# Altium schematic symbol library Capacitor_0603_10_percent.SchLib: 33 symbols
Pins are listed as number, name and electrical type; pins without a type are passive.

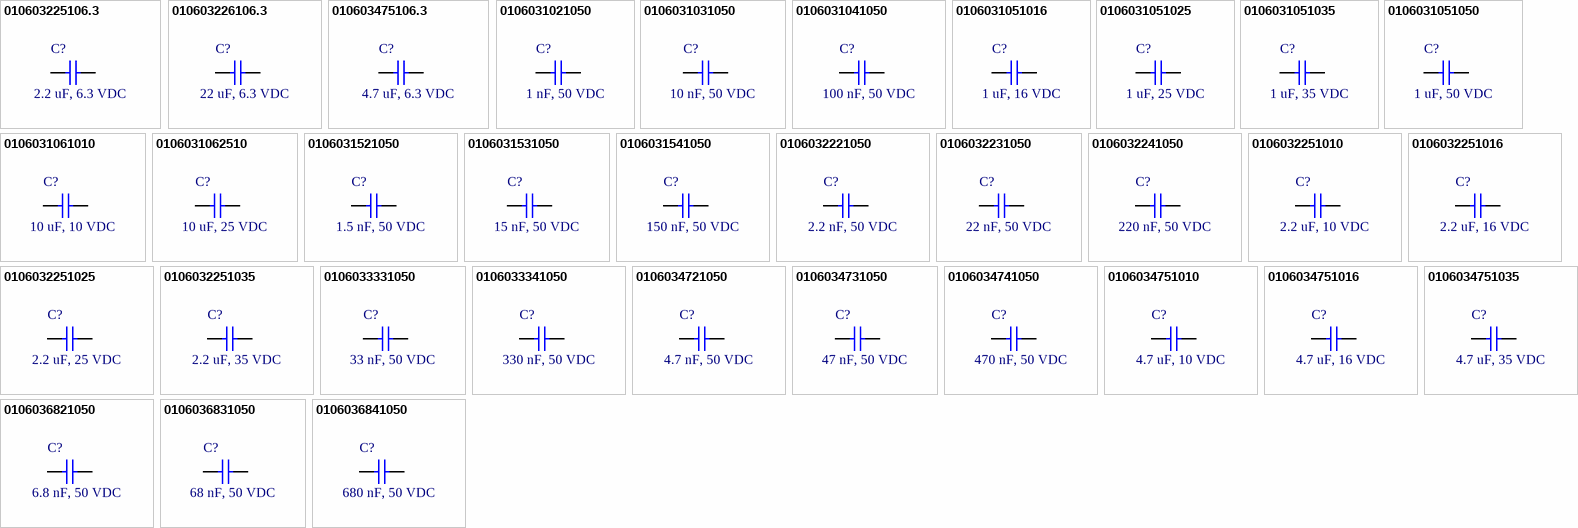
[diagram p0: symbols 010603225106.3 to 0106036841050]

## 010603225106.3
designator C?, comment 2.2 uF, 6.3 VDC
CAP, size 0603, 2.2 uF, 6.3 VDC, 10%; Manufacturer: Samsung Electro-Mechanics; Manufacturer Part Number: CL10B225KQ8NNNC; Capacitance: 2.2 uF; Tolerance: +/-10%; Voltage Rating DC: 6.3 VDC; Packaging: Tape and Reel; Supplier 1 URL: https://www.mouser.vn/ProductDetail/Samsung-Electro-Mechanics/CL10B225KQ8NNNC?qs=349EhDEZ59rhKTQnNCSlcg%3D%3D&utm_source=mouser-refine-download&utm_medium=file&utm_campaign=CL10B225KQ8NNNC&utm_content=Samsung-Electro-Mechanics; Supplier 2 URL: https://www.digikey.com/en/products/detail/samsung-electro-mechanics/cl10b225kq8nnnc/3887676; Supplier 3 URL: N/A; Value: 2.2 uF, 6.3 VDC; Supplier 1: Mouser; Supplier 1 Part Number: 187-CL10B225KQ8NNNC; Supplier 2: Digi-Key; Supplier 2 Part Number: 1276-2018-2-ND; Supplier 3: thegioiic; Supplier 3 Part Number: N/A; ComponentLink1Description: Datasheet; ComponentLink1URL: https://www.mouser.vn/datasheet/2/585/MLCC-1837944.pdf; Mount: SMD/SMT; Operating Temperature Max: + 85 C; Operating Temperature Min: - 40 C; Package / Case: 0603; LCSC Part #: N/A
footprint CAP_0603
pins: 1, 2

## 010603226106.3
designator C?, comment 22 uF, 6.3 VDC
CAP, size 0603, 22 uF, 6.3 VDC, 10%; Manufacturer: Samsung Electro-Mechanics; Manufacturer Part Number: CL10A226KQ8NRNE; Capacitance: 22 uF; Tolerance: +/-10%; Voltage Rating DC: 6.3 VDC; Packaging: Tape and Reel; Supplier 1 URL: https://www.mouser.vn/ProductDetail/Samsung-Electro-Mechanics/CL10A226KQ8NRNE?qs=NrXEK%2Fuukt63rpgsAsB8kg%3D%3D&utm_source=mouser-refine-download&utm_medium=file&utm_campaign=CL10A226KQ8NRNE&utm_content=Samsung-Electro-Mechanics; Supplier 2 URL: https://www.digikey.com/en/products/detail/samsung-electro-mechanics/cl10a226kq8nrne/3888525; Supplier 3 URL: N/A; Value: 22 uF, 6.3 VDC; Supplier 1: Mouser; Supplier 1 Part Number: 187-CL10A226KQ8NRNE; Supplier 2: Digi-Key; Supplier 2 Part Number: 1276-2867-2-ND; Supplier 3: thegioiic; Supplier 3 Part Number: N/A; ComponentLink1Description: Datasheet; ComponentLink1URL: https://www.mouser.vn/datasheet/2/585/MLCC-1837944.pdf; Mount: SMD/SMT; Operating Temperature Max: + 85 C; Operating Temperature Min: - 40 C; Package / Case: 0603; LCSC Part #: N/A
footprint CAP_0603
pins: 1, 2

## 010603475106.3
designator C?, comment 4.7 uF, 6.3 VDC
CAP, size 0603, 4.7 uF, 6.3 VDC, 10%; Manufacturer: Samsung Electro-Mechanics; Manufacturer Part Number: CL10B475KQ8NQNC; Capacitance: 4.7 uF; Tolerance: +/-10%; Voltage Rating DC: 6.3 VDC; Packaging: Tape and Reel; Supplier 1 URL: https://www.mouser.vn/ProductDetail/Samsung-Electro-Mechanics/CL10B475KQ8NQNC?qs=6tbHoouHnQxd6rcaSwpT7Q%3D%3D&utm_source=mouser-refine-download&utm_medium=file&utm_campaign=CL10B475KQ8NQNC&utm_content=Samsung-Electro-Mechanics; Supplier 2 URL: https://www.digikey.com/en/products/detail/samsung-electro-mechanics/cl10b475kq8nqnc/3887745; Supplier 3 URL: N/A; Value: 4.7 uF, 6.3 VDC; Supplier 1: Mouser; Supplier 1 Part Number: 187-CL10B475KQ8NQNC; Supplier 2: Digi-Key; Supplier 2 Part Number: 1276-2087-2-ND; Supplier 3: thegioiic; Supplier 3 Part Number: N/A; ComponentLink1Description: Datasheet; ComponentLink1URL: https://www.mouser.vn/datasheet/2/585/MLCC-1837944.pdf; Mount: SMD/SMT; Operating Temperature Max: + 85 C; Operating Temperature Min: - 40 C; Package / Case: 0603; LCSC Part #: N/A
footprint CAP_0603
pins: 1, 2

## 0106031021050
designator C?, comment 1 nF, 50 VDC
CAP, size 0603, 1 nF, 50 VDC, 10%; Manufacturer: TDK; Manufacturer Part Number: CGA3E2X8R1H102K080AE; Capacitance: 1 nF; Tolerance: +/-10%; Voltage Rating DC: 50 VDC; Packaging: Tape and Reel; Supplier 1 URL: https://www.mouser.com/ProductDetail/TDK/CGA3E2X8R1H102K080AE?qs=nQSIdc08i%252Bfmccrsr1TaaQ%3D%3D&utm_source=mouser-refine-download&utm_medium=file&utm_campaign=CGA3E2X8R1H102K080AE&utm_content=TDK; Supplier 2 URL: https://www.digikey.com/en/products/detail/tdk-corporation/cga3e2x8r1h102k080ae/5809329; Supplier 3 URL: N/A; Value: 1 nF, 50 VDC; Supplier 1: Mouser; Supplier 1 Part Number: 810-CGA3E2X8R1H102KA; Supplier 2: Digi-Key; Supplier 2 Part Number: 445-173764-2-ND; Supplier 3: thegioiic; Supplier 3 Part Number: N/A; ComponentLink1Description: Datasheet; ComponentLink1URL: https://product.tdk.com/system/files/dam/doc/product/capacitor/ceramic/mlcc/catalog/mlcc_automotive_soft_en.pdf?ref_disty=mouser; Mount: SMD/SMT; Operating Temperature Max: + 85 C; Operating Temperature Min: - 40 C; Package / Case: 0603; LCSC Part #: N/A
footprint CAP_0603
pins: 1, 2

## 0106031031050
designator C?, comment 10 nF, 50 VDC
CAP, size 0603, 10 nF, 50 VDC, 10%; Manufacturer: TDK; Manufacturer Part Number: CGA3E2X8R1H103K080AA; Capacitance: 10 nF; Tolerance: +/-10%; Voltage Rating DC: 50 VDC; Packaging: Tape and Reel; Supplier 1 URL: https://www.mouser.com/ProductDetail/TDK/CGA3E2X8R1H103K080AA?qs=NRhsANhppD89WrzFr8uamw%3D%3D&utm_source=mouser-refine-download&utm_medium=file&utm_campaign=CGA3E2X8R1H103K080AA&utm_content=TDK; Supplier 2 URL: https://www.digikey.com/en/products/detail/tdk-corporation/cga3e2x8r1h103k080aa/2443370; Supplier 3 URL: https://www.thegioiic.com/tu-gom-0603-10nf-50v; Value: 10 nF, 50 VDC; Supplier 1: Mouser; Supplier 1 Part Number: 810-CGA3E2X8R1H103K; Supplier 2: Digi-Key; Supplier 2 Part Number: 445-5892-2-ND; Supplier 3: thegioiic; Supplier 3 Part Number: N/A; ComponentLink1Description: Datasheet; ComponentLink1URL: https://product.tdk.com/system/files/dam/doc/product/capacitor/ceramic/mlcc/catalog/mlcc_automotive_hightemp_en.pdf?ref_disty=mouser; Mount: SMD/SMT; Operating Temperature Max: + 85 C; Operating Temperature Min: - 40 C; Package / Case: 0603; LCSC Part #: C100042
footprint CAP_0603
pins: 1, 2

## 0106031041050
designator C?, comment 100 nF, 50 VDC
CAP, size 0603, 100 nF, 50 VDC, 10%; Manufacturer: TDK; Manufacturer Part Number: CGA3E3X8R1H104K080AE; Capacitance: 100 nF; Tolerance: +/-10%; Voltage Rating DC: 50 VDC; Packaging: Tape and Reel; Supplier 1 URL: https://www.mouser.com/ProductDetail/TDK/CGA3E3X8R1H104K080AE?qs=nQSIdc08i%252Bd8g3IRRgU2bw%3D%3D&utm_source=mouser-refine-download&utm_medium=file&utm_campaign=CGA3E3X8R1H104K080AE&utm_content=TDK; Supplier 2 URL: https://www.digikey.com/en/products/detail/tdk-corporation/cga3e3x8r1h104k080ae/5809262; Supplier 3 URL: https://www.thegioiic.com/tu-gom-0603-100nf-0-1uf-50v; Value: 100 nF, 50 VDC; Supplier 1: Mouser; Supplier 1 Part Number: 810-CGA3E3X8R1H104KA; Supplier 2: Digi-Key; Supplier 2 Part Number: 445-173697-2-ND; Supplier 3: thegioiic; Supplier 3 Part Number: N/A; ComponentLink1Description: Datasheet; ComponentLink1URL: https://product.tdk.com/system/files/dam/doc/product/capacitor/ceramic/mlcc/catalog/mlcc_automotive_soft_en.pdf?ref_disty=mouser; Mount: SMD/SMT; Operating Temperature Max: + 85 C; Operating Temperature Min: - 40 C; Package / Case: 0603; LCSC Part #: C14663
footprint CAP_0603
pins: 1, 2

## 0106031051016
designator C?, comment 1 uF, 16 VDC
CAP, size 0603, 1 uF, 16 VDC, 10%; Manufacturer: Samsung Electro-Mechanics; Manufacturer Part Number: CL10B105KO8NNWC; Capacitance: 1 uF; Tolerance: +/-10%; Voltage Rating DC: 16 VDC; Packaging: Tape and Reel; Supplier 1 URL: https://www.mouser.vn/ProductDetail/Samsung-Electro-Mechanics/CL10B105KO8NNWC?qs=81r%252BiQLm7BT%252BXtc72qn1ug%3D%3D&utm_source=mouser-refine-download&utm_medium=file&utm_campaign=CL10B105KO8NNWC&utm_content=Samsung-Electro-Mechanics; Supplier 2 URL: https://www.digikey.com/en/products/detail/samsung-electro-mechanics/cl10b105ko8nnwc/16572783; Supplier 3 URL: https://www.thegioiic.com/tu-gom-0603-1uf-16v; Value: 1 uF, 16 VDC; Supplier 1: Mouser; Supplier 1 Part Number: 187-CL10B105KO8NNWC; Supplier 2: Digi-Key; Supplier 2 Part Number: 1276-CL10B105KO8NNWCTR-ND; Supplier 3: thegioiic; Supplier 3 Part Number: N/A; ComponentLink1Description: Datasheet; ComponentLink1URL: https://www.mouser.vn/datasheet/2/585/Samsung_MLCC_1837944-1929650.pdf; Mount: SMD/SMT; Operating Temperature Max: + 85 C; Operating Temperature Min: - 40 C; Package / Case: 0603; LCSC Part #: C1592
footprint CAP_0603
pins: 1, 2

## 0106031051025
designator C?, comment 1 uF, 25 VDC
CAP, size 0603, 1 uF, 25 VDC, 10%; Manufacturer: Samsung Electro-Mechanics; Manufacturer Part Number: CL10A105KA8NNNC; Capacitance: 1 uF; Tolerance: +/-10%; Voltage Rating DC: 25 VDC; Packaging: Tape and Reel; Supplier 1 URL: https://www.mouser.vn/ProductDetail/Samsung-Electro-Mechanics/CL10A105KA8NNNC?qs=hqM3L16%252BxldY%252BnK4KzDJVg%3D%3D&utm_source=mouser-refine-download&utm_medium=file&utm_campaign=CL10A105KA8NNNC&utm_content=Samsung-Electro-Mechanics; Supplier 2 URL: https://www.digikey.com/en/products/detail/samsung-electro-mechanics/cl10a105ka8nnnc/3886760; Supplier 3 URL: https://www.thegioiic.com/tu-gom-0603-1uf-25v; Value: 1 uF, 25 VDC; Supplier 1: Mouser; Supplier 1 Part Number: 187-CL10A105KA8NNNC; Supplier 2: Digi-Key; Supplier 2 Part Number: 1276-1102-2-ND; Supplier 3: thegioiic; Supplier 3 Part Number: N/A; ComponentLink1Description: Datasheet; ComponentLink1URL: https://www.mouser.vn/datasheet/2/585/MLCC-1837944.pdf; Mount: SMD/SMT; Operating Temperature Max: + 85 C; Operating Temperature Min: - 40 C; Package / Case: 0603; LCSC Part #: N/A
footprint CAP_0603
pins: 1, 2

## 0106031051035
designator C?, comment 1 uF, 35 VDC
CAP, size 0603, 1 uF, 35 VDC, 10%; Manufacturer: Samsung Electro-Mechanics; Manufacturer Part Number: CL10B105KL9VPJC; Capacitance: 1 uF; Tolerance: +/-10%; Voltage Rating DC: 35 VDC; Packaging: Tape and Reel; Supplier 1 URL: https://www.mouser.vn/ProductDetail/Samsung-Electro-Mechanics/CL10B105KL9VPJC?qs=Jm2GQyTW%2Fbg7HPXOYntRzg%3D%3D&utm_source=mouser-refine-download&utm_medium=file&utm_campaign=CL10B105KL9VPJC&utm_content=Samsung-Electro-Mechanics; Supplier 2 URL: N/A; Supplier 3 URL: N/A; Value: 1 uF, 35 VDC; Supplier 1: Mouser; Supplier 1 Part Number: 187-CL10B105KL9VPJC; Supplier 2: Digi-Key; Supplier 2 Part Number: N/A; Supplier 3: thegioiic; Supplier 3 Part Number: N/A; ComponentLink1Description: Datasheet; ComponentLink1URL: https://www.mouser.vn/datasheet/2/585/Samsung_3_7_2023_CL21Y106KABVPN_Specsheet-3106720.pdf; Mount: SMD/SMT; Operating Temperature Max: + 85 C; Operating Temperature Min: - 40 C; Package / Case: 0603; LCSC Part #: C342956
footprint CAP_0603
pins: 1, 2

## 0106031051050
designator C?, comment 1 uF, 50 VDC
CAP, size 0603, 1 uF, 50 VDC, 10%; Manufacturer: Samsung Electro-Mechanics; Manufacturer Part Number: CL10A105KB8NNNC; Capacitance: 1 uF; Tolerance: +/-10%; Voltage Rating DC: 50 VDC; Packaging: Tape and Reel; Supplier 1 URL: https://www.mouser.com/ProductDetail/TDK/CGA3E3X5R1H105K080AB?qs=NRhsANhppD%2F2%2FwbVN4GABg%3D%3D&utm_source=mouser-refine-download&utm_medium=file&utm_campaign=CGA3E3X5R1H105K080AB&utm_content=TDK; Supplier 2 URL: https://www.digikey.com/en/products/detail/samsung-electro-mechanics/cl10a105kb8nnnc/3887518; Supplier 3 URL: https://www.thegioiic.com/tu-gom-0603-1uf-50v; Value: 1 uF, 50 VDC; Supplier 1: Mouser; Supplier 1 Part Number: 187-CL10A105KB8NNNC; Supplier 2: Digi-Key; Supplier 2 Part Number: 1276-1860-2-ND; Supplier 3: thegioiic; Supplier 3 Part Number: N/A; ComponentLink1Description: Datasheet; ComponentLink1URL: https://product.tdk.com/system/files/dam/doc/product/capacitor/ceramic/mlcc/catalog/mlcc_automotive_general_en.pdf?ref_disty=mouser; Mount: SMD/SMT; Operating Temperature Max: + 85 C; Operating Temperature Min: - 40 C; Package / Case: 0603; LCSC Part #: C15849
footprint CAP_0603
pins: 1, 2

## 0106031061010
designator C?, comment 10 uF, 10 VDC
CAP, size 0603, 10 uF, 10 VDC, 10%; Manufacturer: Samsung Electro-Mechanics; Manufacturer Part Number: CL10A106KP8NNNC; Capacitance: 10 uF; Tolerance: +/-10%; Voltage Rating DC: 10 VDC; Packaging: Tape and Reel; Supplier 1 URL: https://www.mouser.vn/ProductDetail/Samsung-Electro-Mechanics/CL10A106KP8NNNC?qs=X6jEic%2FHinAlyfRHj7fKwg%3D%3D; Supplier 2 URL: https://www.digikey.com/en/products/detail/samsung-electro-mechanics/cl10a106kp8nnnc/3886850; Supplier 3 URL: https://www.thegioiic.com/tu-gom-0603-10uf-25v; Value: 10 uF, 10 VDC; Supplier 1: Mouser; Supplier 1 Part Number: 187-CL10A106KP8NNNC; Supplier 2: Digi-Key; Supplier 2 Part Number: 1276-1192-2-ND; Supplier 3: thegioiic; Supplier 3 Part Number: N/A; ComponentLink1Description: Datasheet; ComponentLink1URL: https://www.mouser.vn/datasheet/2/585/MLCC-1837944.pdf; Mount: SMD/SMT; Operating Temperature Max: + 85 C; Operating Temperature Min: - 40 C; Package / Case: 0603; LCSC Part #: C19702
footprint CAP_0603
pins: 1, 2

## 0106031062510
designator C?, comment 10 uF, 25 VDC
CAP, size 0603, 10 uF, 10 VDC, 10%; Manufacturer: Samsung Electro-Mechanics; Manufacturer Part Number: CL10A106MA8NRNC; Capacitance: 10 uF; Tolerance: +/-10%; Voltage Rating DC: 25 VDC; Packaging: Tape and Reel; Supplier 1 URL: https://www.mouser.vn/ProductDetail/Samsung-Electro-Mechanics/CL10A106MA8NRNC?qs=47mY1nHWefS2vFRvRJVTdQ%3D%3D; Supplier 2 URL: https://www.digikey.com/en/products/detail/samsung-electro-mechanics/CL10A106MA8NRNC/3887527?s=N4IgTCBcDaIMIBkCMAGAgqgbAWTQDgDkAlAuEAXQF8g; Supplier 3 URL: https://www.thegioiic.com/tu-gom-0603-10uf-25v; Value: 10 uF, 25 VDC; Supplier 1: Mouser; Supplier 1 Part Number: 187-CL10A106MA8NRNC; Supplier 2: Digi-Key; Supplier 2 Part Number: 1276-1869-2-ND; Supplier 3: thegioiic; Supplier 3 Part Number: N/A; ComponentLink1Description: Datasheet; ComponentLink1URL: https://www.mouser.vn/datasheet/2/585/MLCC-1837944.pdf; Mount: SMD/SMT; Operating Temperature Max: + 85 C; Operating Temperature Min: - 40 C; Package / Case: 0603; LCSC Part #: C96446
footprint CAP_0603
pins: 1, 2

## 0106031521050
designator C?, comment 1.5 nF, 50 VDC
CAP, size 0603, 1.5 nF, 50 VDC, 10%; Manufacturer: TDK; Manufacturer Part Number: CGA3E2X7R1H152K080AA; Capacitance: 1.5 nF; Tolerance: +/-10%; Voltage Rating DC: 50 VDC; Packaging: Tape and Reel; Supplier 1 URL: https://www.mouser.com/ProductDetail/TDK/CGA3E2X7R1H152K080AA?qs=NRhsANhppD%2FNdlvuo0XOnQ%3D%3D&utm_source=mouser-refine-download&utm_medium=file&utm_campaign=CGA3E2X7R1H152K080AA&utm_content=TDK; Supplier 2 URL: https://www.digikey.com/en/products/detail/tdk-corporation/cga3e2x7r1h152k080aa/2672813; Supplier 3 URL: N/A; Value: 1.5 nF, 50 VDC; Supplier 1: Mouser; Supplier 1 Part Number: 810-CGA3E2X7R1H152K; Supplier 2: Digi-Key; Supplier 2 Part Number: 445-6920-2-ND; Supplier 3: thegioiic; Supplier 3 Part Number: N/A; ComponentLink1Description: Datasheet; ComponentLink1URL: https://product.tdk.com/system/files/dam/doc/product/capacitor/ceramic/mlcc/catalog/mlcc_automotive_general_en.pdf?ref_disty=mouser; Mount: SMD/SMT; Operating Temperature Max: + 85 C; Operating Temperature Min: - 40 C; Package / Case: 0603; LCSC Part #: N/A
footprint CAP_0603
pins: 1, 2

## 0106031531050
designator C?, comment 15 nF, 50 VDC
CAP, size 0603, 15 nF, 50 VDC, 10%; Manufacturer: TDK; Manufacturer Part Number: CGA3E2X7R1H153K080AA; Capacitance: 15 nF; Tolerance: +/-10%; Voltage Rating DC: 50 VDC; Packaging: Tape and Reel; Supplier 1 URL: https://www.mouser.com/ProductDetail/TDK/CGA3E2X7R1H153K080AA?qs=NRhsANhppD9%252BHOr2gRAOAw%3D%3D&utm_source=mouser-refine-download&utm_medium=file&utm_campaign=CGA3E2X7R1H153K080AA&utm_content=TDK; Supplier 2 URL: https://www.digikey.com/en/products/detail/tdk-corporation/cga3e2x7r1h153k080aa/2672816; Supplier 3 URL: N/A; Value: 15 nF, 50 VDC; Supplier 1: Mouser; Supplier 1 Part Number: 810-CGA3E2X7R1H153K; Supplier 2: Digi-Key; Supplier 2 Part Number: 445-6923-2-ND; Supplier 3: thegioiic; Supplier 3 Part Number: N/A; ComponentLink1Description: Datasheet; ComponentLink1URL: https://product.tdk.com/system/files/dam/doc/product/capacitor/ceramic/mlcc/catalog/mlcc_automotive_general_en.pdf?ref_disty=mouser; Mount: SMD/SMT; Operating Temperature Max: + 85 C; Operating Temperature Min: - 40 C; Package / Case: 0603; LCSC Part #: N/A
footprint CAP_0603
pins: 1, 2

## 0106031541050
designator C?, comment 150 nF, 50 VDC
CAP, size 0603, 150 nF, 50 VDC, 10%; Manufacturer: TDK; Manufacturer Part Number: CGA3E3X5R1H154K080AB; Capacitance: 150 nF; Tolerance: +/-10%; Voltage Rating DC: 50 VDC; Packaging: Tape and Reel; Supplier 1 URL: https://www.mouser.com/ProductDetail/TDK/CGA3E3X5R1H154K080AB?qs=xLDY6iXSiQbcO3mD7qcuig%3D%3D&utm_source=mouser-refine-download&utm_medium=file&utm_campaign=CGA3E3X5R1H154K080AB&utm_content=TDK; Supplier 2 URL: https://www.digikey.com/en/products/detail/tdk-corporation/cga3e3x5r1h154k080ab/3949736; Supplier 3 URL: N/A; Value: 150 nF, 50 VDC; Supplier 1: Mouser; Supplier 1 Part Number: 810-CGA3E3X5R1H154KB; Supplier 2: Digi-Key; Supplier 2 Part Number: 445-12500-2-ND; Supplier 3: thegioiic; Supplier 3 Part Number: N/A; ComponentLink1Description: Datasheet; ComponentLink1URL: https://product.tdk.com/system/files/dam/doc/product/capacitor/ceramic/mlcc/catalog/mlcc_automotive_general_en.pdf?ref_disty=mouser; Mount: SMD/SMT; Operating Temperature Max: + 85 C; Operating Temperature Min: - 40 C; Package / Case: 0603; LCSC Part #: N/A
footprint CAP_0603
pins: 1, 2

## 0106032221050
designator C?, comment 2.2 nF, 50 VDC
CAP, size 0603, 2.2 nF, 50 VDC, 10%; Manufacturer: TDK; Manufacturer Part Number: CGA3E2X7R1H222K080AE; Capacitance: 2.2 nF; Tolerance: +/-10%; Voltage Rating DC: 50 VDC; Packaging: Tape and Reel; Supplier 1 URL: https://www.mouser.com/ProductDetail/TDK/CGA3E2X7R1H222K080AE?qs=nQSIdc08i%252Bf18aY9rwDnjg%3D%3D&utm_source=mouser-refine-download&utm_medium=file&utm_campaign=CGA3E2X7R1H222K080AE&utm_content=TDK; Supplier 2 URL: https://www.digikey.com/en/products/detail/tdk-corporation/cga3e2x7r1h222k080ae/5809230; Supplier 3 URL: N/A; Value: 2.2 nF, 50 VDC; Supplier 1: Mouser; Supplier 1 Part Number: 810-CGA3E2X7R1H222KA; Supplier 2: Digi-Key; Supplier 2 Part Number: 445-173665-2-ND; Supplier 3: thegioiic; Supplier 3 Part Number: N/A; ComponentLink1Description: Datasheet; ComponentLink1URL: https://product.tdk.com/system/files/dam/doc/product/capacitor/ceramic/mlcc/catalog/mlcc_automotive_soft_en.pdf?ref_disty=mouser; Mount: SMD/SMT; Operating Temperature Max: + 85 C; Operating Temperature Min: - 40 C; Package / Case: 0603; LCSC Part #: N/A
footprint CAP_0603
pins: 1, 2

## 0106032231050
designator C?, comment 22 nF, 50 VDC
CAP, size 0603, 22 nF, 50 VDC, 10%; Manufacturer: TDK; Manufacturer Part Number: CGA3E2X7R1H223K080AE; Capacitance: 22 nF; Tolerance: +/-10%; Voltage Rating DC: 50 VDC; Packaging: Tape and Reel; Supplier 1 URL: https://www.mouser.com/ProductDetail/TDK/CGA3E2X7R1H223K080AE?qs=nQSIdc08i%252Bf9AsEN7N%2FMeQ%3D%3D&utm_source=mouser-refine-download&utm_medium=file&utm_campaign=CGA3E2X7R1H223K080AE&utm_content=TDK; Supplier 2 URL: https://www.digikey.com/en/products/detail/tdk-corporation/cga3e2x7r1h223k080ae/5809261; Supplier 3 URL: https://www.thegioiic.com/tu-gom-0603-22nf-50v; Value: 22 nF, 50 VDC; Supplier 1: Mouser; Supplier 1 Part Number: 810-CGA3E2X7R1H223KA; Supplier 2: Digi-Key; Supplier 2 Part Number: 445-173696-2-ND; Supplier 3: thegioiic; Supplier 3 Part Number: N/A; ComponentLink1Description: Datasheet; ComponentLink1URL: https://product.tdk.com/system/files/dam/doc/product/capacitor/ceramic/mlcc/catalog/mlcc_automotive_soft_en.pdf?ref_disty=mouser; Mount: SMD/SMT; Operating Temperature Max: + 85 C; Operating Temperature Min: - 40 C; Package / Case: 0603; LCSC Part #: C106222
footprint CAP_0603
pins: 1, 2

## 0106032241050
designator C?, comment 220 nF, 50 VDC
CAP, size 0603, 220 nF, 50 VDC, 10%; Manufacturer: TDK; Manufacturer Part Number: CGA3E3X7R1H224K080AE; Capacitance: 220 nF; Tolerance: +/-10%; Voltage Rating DC: 50 VDC; Packaging: Tape and Reel; Supplier 1 URL: https://www.mouser.com/ProductDetail/TDK/CGA3E3X7R1H224K080AE?qs=nQSIdc08i%252Bd73MzLq310Yg%3D%3D&utm_source=mouser-refine-download&utm_medium=file&utm_campaign=CGA3E3X7R1H224K080AE&utm_content=TDK; Supplier 2 URL: https://www.digikey.com/en/products/detail/tdk-corporation/cga3e3x7r1h224k080ae/5809200; Supplier 3 URL: N/A; Value: 220 nF, 50 VDC; Supplier 1: Mouser; Supplier 1 Part Number: 810-CGA3E3X7R1H224KA; Supplier 2: Digi-Key; Supplier 2 Part Number: 445-173635-2-ND; Supplier 3: thegioiic; Supplier 3 Part Number: N/A; ComponentLink1Description: Datasheet; ComponentLink1URL: https://product.tdk.com/system/files/dam/doc/product/capacitor/ceramic/mlcc/catalog/mlcc_automotive_soft_en.pdf?ref_disty=mouser; Mount: SMD/SMT; Operating Temperature Max: + 85 C; Operating Temperature Min: - 40 C; Package / Case: 0603; LCSC Part #: N/A
footprint CAP_0603
pins: 1, 2

## 0106032251010
designator C?, comment 2.2 uF, 10 VDC
CAP, size 0603, 2.2 uF, 10 VDC, 10%; Manufacturer: Samsung Electro-Mechanics; Manufacturer Part Number: CL10A225KP8NNWC; Capacitance: 2.2 uF; Tolerance: +/-10%; Voltage Rating DC: 10 VDC; Packaging: Tape and Reel; Supplier 1 URL: https://www.mouser.vn/ProductDetail/Samsung-Electro-Mechanics/CL10A225KP8NNWC?qs=f6khj2Jg0Fj5oIVDjMV6rg%3D%3D&utm_source=mouser-refine-download&utm_medium=file&utm_campaign=CL10A225KP8NNWC&utm_content=Samsung-Electro-Mechanics; Supplier 2 URL: https://www.digikey.com/en/products/detail/samsung-electro-mechanics/cl10a225kp8nnwc/16572766; Supplier 3 URL: https://www.thegioiic.com/tu-gom-0603-2-2uf-10v; Value: 2.2 uF, 10 VDC; Supplier 1: Mouser; Supplier 1 Part Number: 187-CL10A225KP8NNWC; Supplier 2: Digi-Key; Supplier 2 Part Number: 1276-CL10A225KP8NNWCTR-ND; Supplier 3: thegioiic; Supplier 3 Part Number: N/A; ComponentLink1Description: Datasheet; ComponentLink1URL: https://www.mouser.vn/datasheet/2/585/Samsung_MLCC_1837944-1929650.pdf; Mount: SMD/SMT; Operating Temperature Max: + 85 C; Operating Temperature Min: - 40 C; Package / Case: 0603; LCSC Part #: N/A
footprint CAP_0603
pins: 1, 2

## 0106032251016
designator C?, comment 2.2 uF, 16 VDC
CAP, size 0603, 2.2 uF, 16 VDC, 10%; Manufacturer: Samsung Electro-Mechanics; Manufacturer Part Number: CL10A225KO8NNWC; Capacitance: 2.2 uF; Tolerance: +/-10%; Voltage Rating DC: 16 VDC; Packaging: Tape and Reel; Supplier 1 URL: https://www.mouser.vn/ProductDetail/Samsung-Electro-Mechanics/CL10A225KO8NNWC?qs=f6khj2Jg0FjUcDguGMWyQw%3D%3D&utm_source=mouser-refine-download&utm_medium=file&utm_campaign=CL10A225KO8NNWC&utm_content=Samsung-Electro-Mechanics; Supplier 2 URL: https://www.digikey.com/en/products/detail/samsung-electro-mechanics/cl10a225ko8nnwc/10478979; Supplier 3 URL: N/A; Value: 2.2 uF, 16 VDC; Supplier 1: Mouser; Supplier 1 Part Number: 187-CL10A225KO8NNWC; Supplier 2: Digi-Key; Supplier 2 Part Number: 1276-CL10A225KO8NNWCTR-ND; Supplier 3: thegioiic; Supplier 3 Part Number: N/A; ComponentLink1Description: Datasheet; ComponentLink1URL: https://www.mouser.vn/datasheet/2/585/MLCC-1837944.pdf; Mount: SMD/SMT; Operating Temperature Max: + 85 C; Operating Temperature Min: - 40 C; Package / Case: 0603; LCSC Part #: N/A
footprint CAP_0603
pins: 1, 2

## 0106032251025
designator C?, comment 2.2 uF, 25 VDC
CAP, size 0603, 2.2 uF, 25 VDC, 10%; Manufacturer: Samsung Electro-Mechanics; Manufacturer Part Number: CL10A225KA5LNNC; Capacitance: 2.2 uF; Tolerance: +/-10%; Voltage Rating DC: 25 VDC; Packaging: Tape and Reel; Supplier 1 URL: https://www.mouser.vn/ProductDetail/Samsung-Electro-Mechanics/CL10A225KA5LNNC?qs=xo2MLhA0R3XJQvhdoYgMfw%3D%3D&utm_source=mouser-refine-download&utm_medium=file&utm_campaign=CL10A225KA5LNNC&utm_content=Samsung-Electro-Mechanics; Supplier 2 URL: https://www.digikey.com/en/products/detail/samsung-electro-mechanics/cl10a225ka5lnnc/3887536; Supplier 3 URL: https://www.thegioiic.com/tu-gom-0603-2-2uf-25v; Value: 2.2 uF, 25 VDC; Supplier 1: Mouser; Supplier 1 Part Number: 187-CL10A225KA5LNNC; Supplier 2: Digi-Key; Supplier 2 Part Number: 1276-1878-2-ND; Supplier 3: thegioiic; Supplier 3 Part Number: N/A; ComponentLink1Description: Datasheet; ComponentLink1URL: https://www.mouser.vn/datasheet/2/585/MLCC-1837944.pdf; Mount: SMD/SMT; Operating Temperature Max: + 85 C; Operating Temperature Min: - 40 C; Package / Case: 0603; LCSC Part #: N/A
footprint CAP_0603
pins: 1, 2

## 0106032251035
designator C?, comment 2.2 uF, 35 VDC
CAP, size 0603, 2.2 uF, 35 VDC, 10%; Manufacturer: Samsung Electro-Mechanics; Manufacturer Part Number: CL10A225KL8NNNC; Capacitance: 2.2 uF; Tolerance: +/-10%; Voltage Rating DC: 35 VDC; Packaging: Tape and Reel; Supplier 1 URL: https://www.mouser.vn/ProductDetail/Samsung-Electro-Mechanics/CL10A225KL8NNNC?qs=xZ%2FP%252Ba9zWqba%2FklSReM66A%3D%3D&utm_source=mouser-refine-download&utm_medium=file&utm_campaign=CL10A225KL8NNNC&utm_content=Samsung-Electro-Mechanics; Supplier 2 URL: https://www.digikey.com/en/products/detail/samsung-electro-mechanics/cl10a225kl8nnnc/5961210; Supplier 3 URL: N/A; Value: 2.2 uF, 35 VDC; Supplier 1: Mouser; Supplier 1 Part Number: 187-CL10A225KL8NNNC; Supplier 2: Digi-Key; Supplier 2 Part Number: 1276-6726-2-ND; Supplier 3: thegioiic; Supplier 3 Part Number: N/A; ComponentLink1Description: Datasheet; ComponentLink1URL: https://www.mouser.vn/datasheet/2/585/MLCC-1837944.pdf; Mount: SMD/SMT; Operating Temperature Max: + 85 C; Operating Temperature Min: - 40 C; Package / Case: 0603; LCSC Part #: N/A
footprint CAP_0603
pins: 1, 2

## 0106033331050
designator C?, comment 33 nF, 50 VDC
CAP, size 0603, 33 nF, 50 VDC, 10%; Manufacturer: TDK; Manufacturer Part Number: CGA3E2X7R1H333K080AA; Capacitance: 33 nF; Tolerance: +/-10%; Voltage Rating DC: 50 VDC; Packaging: Tape and Reel; Supplier 1 URL: https://www.mouser.com/ProductDetail/TDK/CGA3E2X7R1H333K080AA?qs=NRhsANhppD8XLu6u%252B%2FdPcg%3D%3D&utm_source=mouser-refine-download&utm_medium=file&utm_campaign=CGA3E2X7R1H333K080AA&utm_content=TDK; Supplier 2 URL: https://www.digikey.com/en/products/detail/tdk-corporation/cga3e2x7r1h333k080aa/2672817; Supplier 3 URL: N/A; Value: 33 nF, 50 VDC; Supplier 1: Mouser; Supplier 1 Part Number: 810-CGA3E2X7R1H333K; Supplier 2: Digi-Key; Supplier 2 Part Number: 445-6924-2-ND; Supplier 3: thegioiic; Supplier 3 Part Number: N/A; ComponentLink1Description: Datasheet; ComponentLink1URL: https://product.tdk.com/system/files/dam/doc/product/capacitor/ceramic/mlcc/catalog/mlcc_automotive_general_en.pdf?ref_disty=mouser; Mount: SMD/SMT; Operating Temperature Max: + 85 C; Operating Temperature Min: - 40 C; Package / Case: 0603; LCSC Part #: N/A
footprint CAP_0603
pins: 1, 2

## 0106033341050
designator C?, comment 330 nF, 50 VDC
CAP, size 0603, 330 nF, 50 VDC, 10%; Manufacturer: TDK; Manufacturer Part Number: CGA3E3X7R1H334K080AB; Capacitance: 330 nF; Tolerance: +/-10%; Voltage Rating DC: 50 VDC; Packaging: Tape and Reel; Supplier 1 URL: https://www.mouser.com/ProductDetail/TDK/CGA3E3X7R1H334K080AB?qs=xLDY6iXSiQYX1%2FLGJVHTlg%3D%3D&utm_source=mouser-refine-download&utm_medium=file&utm_campaign=CGA3E3X7R1H334K080AB&utm_content=TDK; Supplier 2 URL: https://www.digikey.com/en/products/detail/tdk-corporation/cga3e3x7r1h334k080ab/4931465; Supplier 3 URL: N/A; Value: 330 nF, 50 VDC; Supplier 1: Mouser; Supplier 1 Part Number: 810-CGA3E3X7R1H334KB; Supplier 2: Digi-Key; Supplier 2 Part Number: 445-174426-2-ND; Supplier 3: thegioiic; Supplier 3 Part Number: N/A; ComponentLink1Description: Datasheet; ComponentLink1URL: https://product.tdk.com/system/files/dam/doc/product/capacitor/ceramic/mlcc/catalog/mlcc_automotive_general_en.pdf?ref_disty=mouser; Mount: SMD/SMT; Operating Temperature Max: + 85 C; Operating Temperature Min: - 40 C; Package / Case: 0603; LCSC Part #: N/A
footprint CAP_0603
pins: 1, 2

## 0106034721050
designator C?, comment 4.7 nF, 50 VDC
CAP, size 0603, 4.7 nF, 50 VDC, 10%; Manufacturer: TDK; Manufacturer Part Number: CGA3E2X7R1H472K080AE; Capacitance: 4.7 nF; Tolerance: +/-10%; Voltage Rating DC: 50 VDC; Packaging: Tape and Reel; Supplier 1 URL: https://www.mouser.com/ProductDetail/TDK/CGA3E2X7R1H472K080AE?qs=nQSIdc08i%252BfCN3g%2Fbr3IGA%3D%3D&utm_source=mouser-refine-download&utm_medium=file&utm_campaign=CGA3E2X7R1H472K080AE&utm_content=TDK; Supplier 2 URL: https://www.digikey.com/en/products/detail/tdk-corporation/cga3e2x7r1h472k080ae/5809256; Supplier 3 URL: https://www.thegioiic.com/tu-gom-0603-4-7nf-50v; Value: 4.7 nF, 50 VDC; Supplier 1: Mouser; Supplier 1 Part Number: 810-CGA3E2X7R1H472KA; Supplier 2: Digi-Key; Supplier 2 Part Number: 445-173691-2-ND; Supplier 3: thegioiic; Supplier 3 Part Number: N/A; ComponentLink1Description: Datasheet; ComponentLink1URL: https://product.tdk.com/system/files/dam/doc/product/capacitor/ceramic/mlcc/catalog/mlcc_automotive_soft_en.pdf?ref_disty=mouser; Mount: SMD/SMT; Operating Temperature Max: + 85 C; Operating Temperature Min: - 40 C; Package / Case: 0603; LCSC Part #: N/A
footprint CAP_0603
pins: 1, 2

## 0106034731050
designator C?, comment 47 nF, 50 VDC
CAP, size 0603, 47 nF, 50 VDC, 10%; Manufacturer: TDK; Manufacturer Part Number: CGA3E2X7R1H473K080AA; Capacitance: 47 nF; Tolerance: +/-10%; Voltage Rating DC: 50 VDC; Packaging: Tape and Reel; Supplier 1 URL: https://www.mouser.com/ProductDetail/TDK/CGA3E2X7R1H473K080AA?qs=NRhsANhppD%252BXNlr9LoLgTw%3D%3D&utm_source=mouser-refine-download&utm_medium=file&utm_campaign=CGA3E2X7R1H473K080AA&utm_content=TDK; Supplier 2 URL: https://www.digikey.com/en/products/detail/tdk-corporation/cga3e2x7r1h473k080aa/2443142; Supplier 3 URL: N/A; Value: 47 nF, 50 VDC; Supplier 1: Mouser; Supplier 1 Part Number: 810-CGA3E2X7R1H473K; Supplier 2: Digi-Key; Supplier 2 Part Number: 445-5664-2-ND; Supplier 3: thegioiic; Supplier 3 Part Number: N/A; ComponentLink1Description: Datasheet; ComponentLink1URL: https://product.tdk.com/system/files/dam/doc/product/capacitor/ceramic/mlcc/catalog/mlcc_automotive_general_en.pdf?ref_disty=mouser; Mount: SMD/SMT; Operating Temperature Max: + 85 C; Operating Temperature Min: - 40 C; Package / Case: 0603; LCSC Part #: N/A
footprint CAP_0603
pins: 1, 2

## 0106034741050
designator C?, comment 470 nF, 50 VDC
CAP, size 0603, 470 nF, 50 VDC, 10%; Manufacturer: TDK; Manufacturer Part Number: CGA3E3X7R1H474K080AB; Capacitance: 470 nF; Tolerance: +/-10%; Voltage Rating DC: 50 VDC; Packaging: Tape and Reel; Supplier 1 URL: https://www.mouser.com/ProductDetail/TDK/CGA3E3X7R1H474K080AB?qs=xLDY6iXSiQYK0oGm7fVVjw%3D%3D&utm_source=mouser-refine-download&utm_medium=file&utm_campaign=CGA3E3X7R1H474K080AB&utm_content=TDK; Supplier 2 URL: https://www.digikey.com/en/products/detail/tdk-corporation/cga3e3x7r1h474k080ab/4931467; Supplier 3 URL: N/A; Value: 470 nF, 50 VDC; Supplier 1: Mouser; Supplier 1 Part Number: 810-CGA3E3X7R1H474KB; Supplier 2: Digi-Key; Supplier 2 Part Number: 445-175200-2-ND; Supplier 3: thegioiic; Supplier 3 Part Number: N/A; ComponentLink1Description: Datasheet; ComponentLink1URL: https://product.tdk.com/system/files/dam/doc/product/capacitor/ceramic/mlcc/catalog/mlcc_automotive_general_en.pdf?ref_disty=mouser; Mount: SMD/SMT; Operating Temperature Max: + 85 C; Operating Temperature Min: - 40 C; Package / Case: 0603; LCSC Part #: N/A
footprint CAP_0603
pins: 1, 2

## 0106034751010
designator C?, comment 4.7 uF, 10 VDC
CAP, size 0603, 4.7 uF, 10 VDC, 10%; Manufacturer: Samsung Electro-Mechanics; Manufacturer Part Number: CL10A475KP8NNWC; Capacitance: 4.7 uF; Tolerance: +/-10%; Voltage Rating DC: 10 VDC; Packaging: Tape and Reel; Supplier 1 URL: https://www.mouser.vn/ProductDetail/Samsung-Electro-Mechanics/CL10A475KP8NNWC?qs=81r%252BiQLm7BQyXBb52PEUBA%3D%3D&utm_source=mouser-refine-download&utm_medium=file&utm_campaign=CL10A475KP8NNWC&utm_content=Samsung-Electro-Mechanics; Supplier 2 URL: https://www.digikey.com/en/products/detail/samsung-electro-mechanics/cl10a475kp8nnwc/16572736; Supplier 3 URL: https://www.thegioiic.com/tu-gom-0603-4-7uf-25v; Value: 4.7 uF, 10 VDC; Supplier 1: Mouser; Supplier 1 Part Number: 187-CL10A475KP8NNWC; Supplier 2: Digi-Key; Supplier 2 Part Number: 1276-CL10A475KP8NNWCTR-ND; Supplier 3: thegioiic; Supplier 3 Part Number: N/A; ComponentLink1Description: Datasheet; ComponentLink1URL: https://www.mouser.vn/datasheet/2/585/Samsung_MLCC_1837944-1929650.pdf; Mount: SMD/SMT; Operating Temperature Max: + 85 C; Operating Temperature Min: - 40 C; Package / Case: 0603; LCSC Part #: N/A
footprint CAP_0603
pins: 1, 2

## 0106034751016
designator C?, comment 4.7 uF, 16 VDC
CAP, size 0603, 4.7 uF, 16 VDC, 10%; Manufacturer: Samsung Electro-Mechanics; Manufacturer Part Number: CL10A475KO8NNNC; Capacitance: 4.7 uF; Tolerance: +/-10%; Voltage Rating DC: 16 VDC; Packaging: Tape and Reel; Supplier 1 URL: https://www.mouser.vn/ProductDetail/Samsung-Electro-Mechanics/CL10A475KO8NNNC?qs=X6jEic%2FHinAbIjmLnFfqqQ%3D%3D&utm_source=mouser-refine-download&utm_medium=file&utm_campaign=CL10A475KO8NNNC&utm_content=Samsung-Electro-Mechanics; Supplier 2 URL: https://www.digikey.com/en/products/detail/samsung-electro-mechanics/cl10a475ko8nnnc/3887442; Supplier 3 URL: N/A; Value: 4.7 uF, 16 VDC; Supplier 1: Mouser; Supplier 1 Part Number: 187-CL10A475KO8NNNC; Supplier 2: Digi-Key; Supplier 2 Part Number: 1276-1784-2-ND; Supplier 3: thegioiic; Supplier 3 Part Number: N/A; ComponentLink1Description: Datasheet; ComponentLink1URL: https://www.mouser.vn/datasheet/2/585/MLCC-1837944.pdf; Mount: SMD/SMT; Operating Temperature Max: + 85 C; Operating Temperature Min: - 40 C; Package / Case: 0603; LCSC Part #: N/A
footprint CAP_0603
pins: 1, 2

## 0106034751035
designator C?, comment 4.7 uF, 35 VDC
CAP, size 0603, 4.7 uF, 35 VDC, 10%; Manufacturer: Samsung Electro-Mechanics; Manufacturer Part Number: CL10A475KL8NRNC; Capacitance: 4.7 uF; Tolerance: +/-10%; Voltage Rating DC: 35 VDC; Packaging: Tape and Reel; Supplier 1 URL: https://www.mouser.vn/ProductDetail/Samsung-Electro-Mechanics/CL10A475KL8NRNC?qs=xZ%2FP%252Ba9zWqa0jfvJtp%252BUEg%3D%3D&utm_source=mouser-refine-download&utm_medium=file&utm_campaign=CL10A475KL8NRNC&utm_content=Samsung-Electro-Mechanics; Supplier 2 URL: https://www.digikey.com/en/products/detail/samsung-electro-mechanics/cl10a475kl8nrnc/5961278; Supplier 3 URL: https://www.thegioiic.com/tu-gom-0603-4-7uf-25v; Value: 4.7 uF, 35 VDC; Supplier 1: Mouser; Supplier 1 Part Number: 187-CL10A475KL8NRNC; Supplier 2: Digi-Key; Supplier 2 Part Number: 1276-6794-2-ND; Supplier 3: thegioiic; Supplier 3 Part Number: N/A; ComponentLink1Description: Datasheet; ComponentLink1URL: https://www.mouser.vn/datasheet/2/585/MLCC-1837944.pdf; Mount: SMD/SMT; Operating Temperature Max: + 85 C; Operating Temperature Min: - 40 C; Package / Case: 0603; LCSC Part #: C307467
footprint CAP_0603
pins: 1, 2

## 0106036821050
designator C?, comment 6.8 nF, 50 VDC
CAP, size 0603, 6.8 nF, 50 VDC, 10%; Manufacturer: TDK; Manufacturer Part Number: CGA3E2X7R1H682K080AA; Capacitance: 6.8 nF; Tolerance: +/-10%; Voltage Rating DC: 50 VDC; Packaging: Tape and Reel; Supplier 1 URL: https://www.mouser.com/ProductDetail/TDK/CGA3E2X7R1H682K080AA?qs=NRhsANhppD8xpr2Ztz0zlg%3D%3D&utm_source=mouser-refine-download&utm_medium=file&utm_campaign=CGA3E2X7R1H682K080AA&utm_content=TDK; Supplier 2 URL: https://www.digikey.com/en/products/detail/tdk-corporation/cga3e2x7r1h682k080aa/2672815; Supplier 3 URL: N/A; Value: 6.8 nF, 50 VDC; Supplier 1: Mouser; Supplier 1 Part Number: 810-CGA3E2X7R1H682K; Supplier 2: Digi-Key; Supplier 2 Part Number: 445-6922-2-ND; Supplier 3: thegioiic; Supplier 3 Part Number: N/A; ComponentLink1Description: Datasheet; ComponentLink1URL: https://product.tdk.com/system/files/dam/doc/product/capacitor/ceramic/mlcc/catalog/mlcc_automotive_general_en.pdf?ref_disty=mouser; Mount: SMD/SMT; Operating Temperature Max: + 85 C; Operating Temperature Min: - 40 C; Package / Case: 0603; LCSC Part #: N/A
footprint CAP_0603
pins: 1, 2

## 0106036831050
designator C?, comment 68 nF, 50 VDC
CAP, size 0603, 68 nF, 50 VDC, 10%; Manufacturer: TDK; Manufacturer Part Number: CGA3E2X7R1H683K080AA; Capacitance: 68 nF; Tolerance: +/-10%; Voltage Rating DC: 50 VDC; Packaging: Tape and Reel; Supplier 1 URL: https://www.mouser.com/ProductDetail/TDK/CGA3E2X7R1H683K080AA?qs=NRhsANhppD%252BWyOHUcAY%252Bxg%3D%3D&utm_source=mouser-refine-download&utm_medium=file&utm_campaign=CGA3E2X7R1H683K080AA&utm_content=TDK; Supplier 2 URL: https://www.digikey.com/en/products/detail/tdk-corporation/cga3e2x7r1h683k080aa/2443143; Supplier 3 URL: N/A; Value: 68 nF, 50 VDC; Supplier 1: Mouser; Supplier 1 Part Number: 810-CGA3E2X7R1H683K; Supplier 2: Digi-Key; Supplier 2 Part Number: 445-5665-2-ND; Supplier 3: thegioiic; Supplier 3 Part Number: N/A; ComponentLink1Description: Datasheet; ComponentLink1URL: https://product.tdk.com/system/files/dam/doc/product/capacitor/ceramic/mlcc/catalog/mlcc_automotive_general_en.pdf?ref_disty=mouser; Mount: SMD/SMT; Operating Temperature Max: + 85 C; Operating Temperature Min: - 40 C; Package / Case: 0603; LCSC Part #: N/A
footprint CAP_0603
pins: 1, 2

## 0106036841050
designator C?, comment 680 nF, 50 VDC
CAP, size 0603, 680 nF, 50 VDC, 10%; Manufacturer: TDK; Manufacturer Part Number: CGA3E3X5R1H684K080AB; Capacitance: 680 nF; Tolerance: +/-10%; Voltage Rating DC: 50 VDC; Packaging: Tape and Reel; Supplier 1 URL: https://www.mouser.com/ProductDetail/TDK/CGA3E3X5R1H684K080AB?qs=xLDY6iXSiQYxQezqra8RMg%3D%3D&utm_source=mouser-refine-download&utm_medium=file&utm_campaign=CGA3E3X5R1H684K080AB&utm_content=TDK; Supplier 2 URL: https://www.digikey.com/en/products/detail/tdk-corporation/cga3e3x5r1h684k080ab/3949744; Supplier 3 URL: N/A; Value: 680 nF, 50 VDC; Supplier 1: Mouser; Supplier 1 Part Number: 810-CGA3E3X5R1H684KB; Supplier 2: Digi-Key; Supplier 2 Part Number: 445-12508-2-ND; Supplier 3: thegioiic; Supplier 3 Part Number: N/A; ComponentLink1Description: Datasheet; ComponentLink1URL: https://product.tdk.com/system/files/dam/doc/product/capacitor/ceramic/mlcc/catalog/mlcc_automotive_general_en.pdf?ref_disty=mouser; Mount: SMD/SMT; Operating Temperature Max: + 85 C; Operating Temperature Min: - 40 C; Package / Case: 0603; LCSC Part #: N/A
footprint CAP_0603
pins: 1, 2